# Altium schematic symbol library LM1117IMP-3.3_NOPB.SchLib: 1 symbol
Pins are listed as number, name and electrical type; pins without a type are passive.

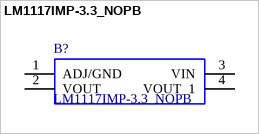
[diagram p0: symbol LM1117IMP-3.3_NOPB]

## LM1117IMP-3.3_NOPB
designator B?
LM1117IMP-3.3/NOPB, Low Dropout Voltage Regulator, 1.5A, 3.3 V 1%, 4-Pin SOT-223; Manufacturer_Name: Texas Instruments; Geometry.Height: 1.8mm; Manufacturer_Part_Number: LM1117IMP-3.3/NOPB; RS Part Number: 5358635P; RS Price/Stock: http://uk.rs-online.com/web/p/products/5358635P; Arrow Part Number: LM1117IMP-3.3/NOPB; Arrow Price/Stock: https://www.arrow.com/en/products/lm1117imp-3.3nopb/texas-instruments; Datasheet Link: http://docs-europe.electrocomponents.com/webdocs/05bb/0900766b805bb323.pdf
footprint SOT230P700X180-4N
pins: 1 ADJ/GND, 2 VOUT, 3 VIN, 4 VOUT_1